# EAGLE library part AQH2223 (library Eagle CMR)
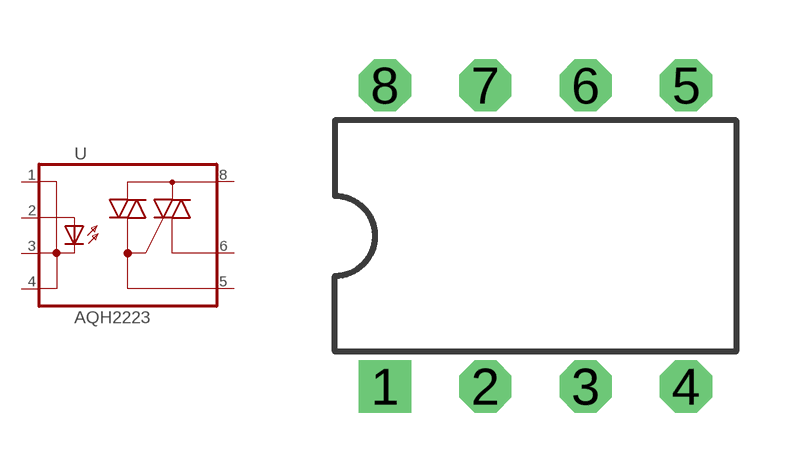
[diagram p13: symbol with the pads of DIL08; footprint DIL08]

Designator prefix -

## AQH2223DIL08  [DIL08]
1  1
2  2  pwr
3  3  pwr
4  4
5  5  pas
6  6  pas
8  8  pas

## Footprint DIL08 (pad centres in mm)
Dual In Line Package
drill 0.813 square: 1 -3.81,-3.81
drill 0.813 octagon: 2 -1.27,-3.81; 3 1.27,-3.81; 4 3.81,-3.81; 5 3.81,3.81; 6 1.27,3.81; 7 -1.27,3.81; 8 -3.81,3.81